# Altium footprint library Кварцы_корпуса.PcbLib: 1 footprints
Each footprint in its own frame and in the unit in brackets; x right, y up, seen from the top. Pads: shape width x height; smd on the part's side, far side on the other; paste and mask are expansions set on the pad; w line width, h text height; cw(c..) or ccw(c..) is an arc to the next point about the centre after c.
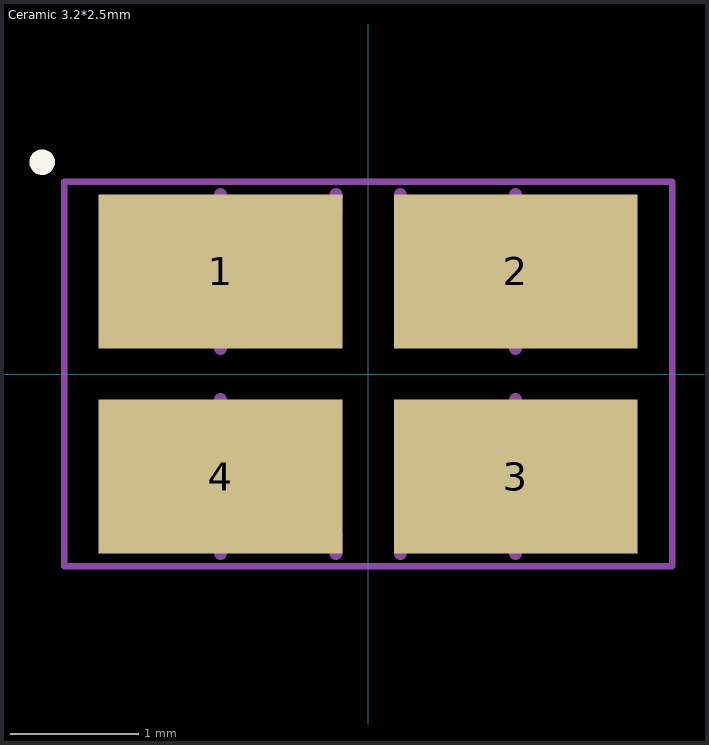
[diagram p0: the footprint, top view; thin cyan lines are the x and y axes]

## Ceramic 3.2*2.5mm [mm] "Seam Sealed Ceramic 3.2*2.5mm"
height 2
pads (4):
  rect 1.9x1.2 smd: 1(-1.15,0.8) 2(1.15,0.8) 3(1.15,-0.8) 4(-1.15,-0.8)
Top Overlay:
  circle w0.1: c-2.54,1.651 r0.05
Mechanical 13:
  lines w0.1: -1.15,-1.4 -1.15,-0.2 ; -1.15,0.2 -1.15,1.4 ; -0.25,-1.4 -0.25,-1.25 ; -0.25,1.25 -0.25,1.4 ; 0.25,-1.4 0.25,-1.25 ; 0.25,1.25 0.25,1.4 ; 1.15,-1.4 1.15,-0.2 ; 1.15,0.2 1.15,1.4
Mechanical 15:
  lines w0.05: -2.37,-1.5 2.37,-1.5 2.37,1.5 -2.37,1.5 -2.37,-1.5